# EAGLE library part SI3441DBV (library berkeley-epic)
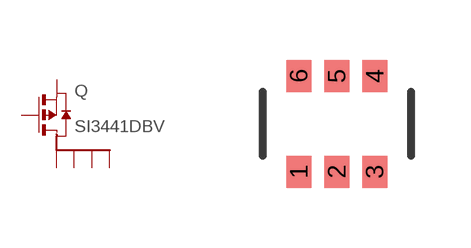
[diagram p18: symbol with the pads of TSOP-6; footprint TSOP-6]

Designator prefix Q

## SI3441DBV  [TSOP-6]
1  D  pas
2  D  pas
3  G  pas
4  S  pas
5  D  pas
6  D  pas

## Footprint TSOP-6 (pad centres in mm)
TSOC 6
smd 0.63 x 0.8: 1 -0.95,-1.2; 2 0,-1.2; 3 0.95,-1.2; 4 0.95,1.2; 5 0,1.2; 6 -0.95,1.2